# Altium integrated library Infineon_Microcontroller.IntLib: 721 symbols (part 52 of 66)
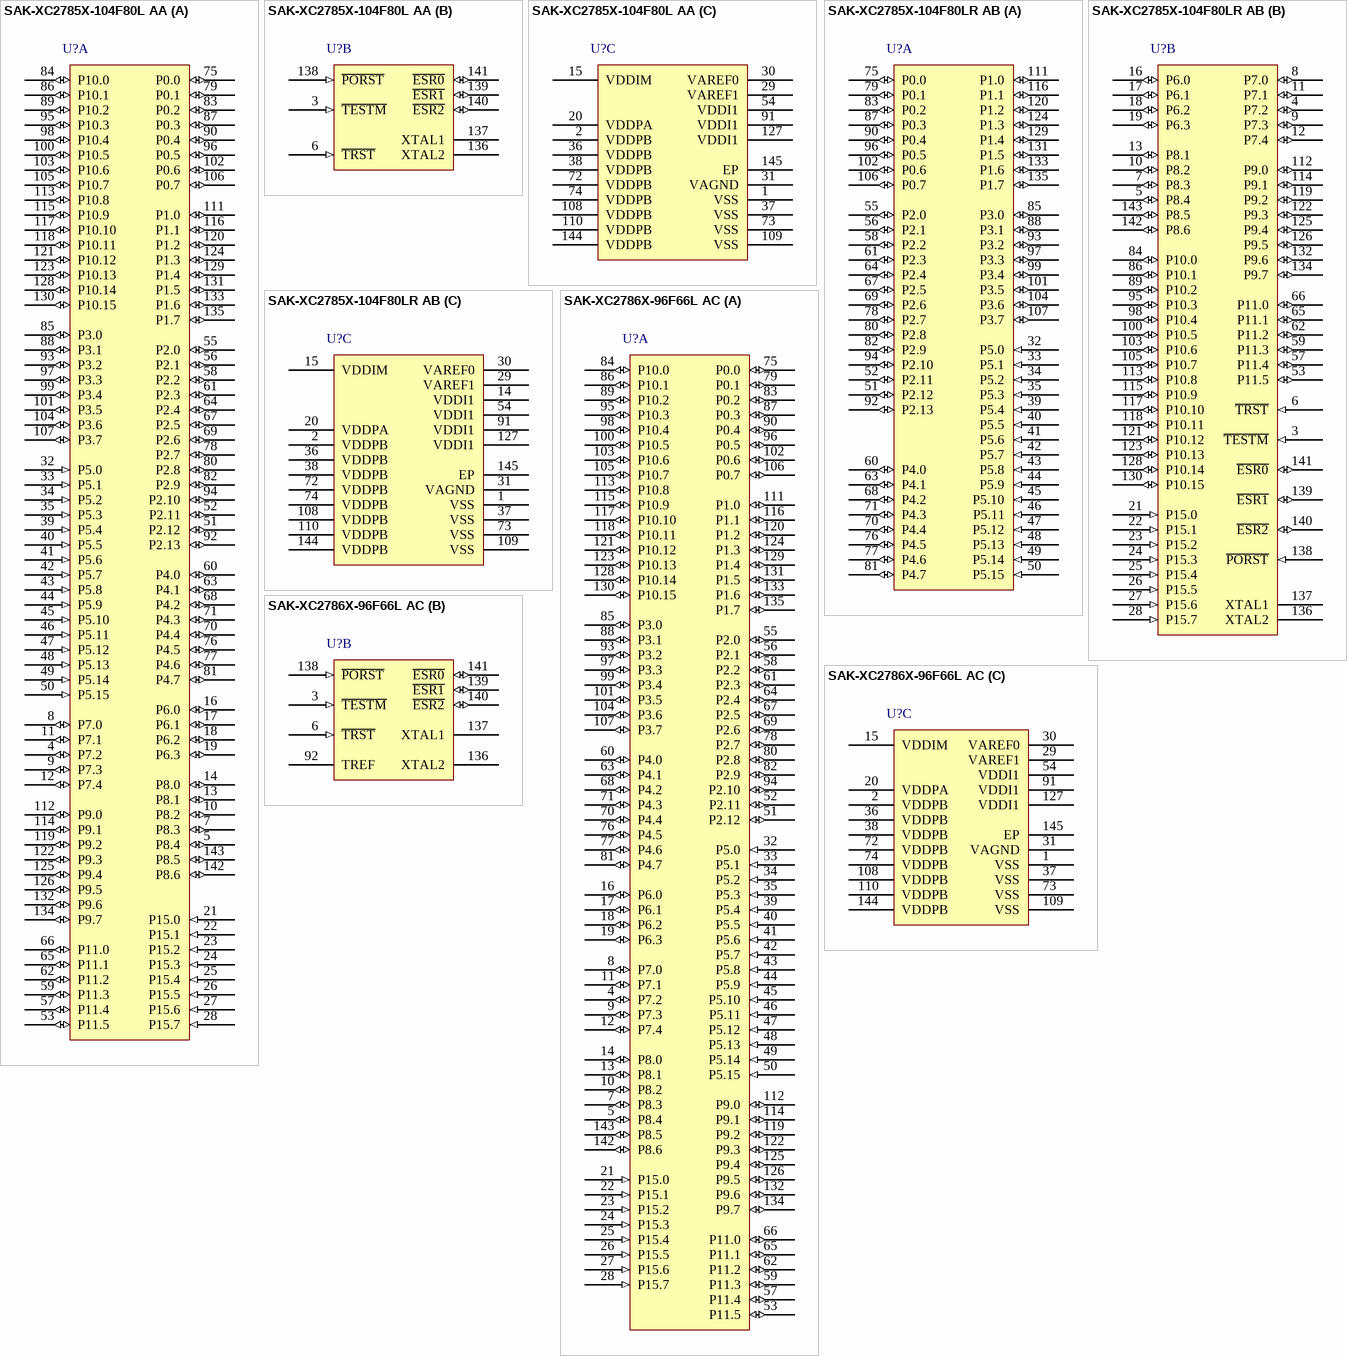
[diagram p169: symbols SAK-XC2785X-104F80L AA to SAK-XC2786X-96F66L AC]

## SAK-XC2786X-96F66L AC
designator U?
66 MHz XC2700 MCU with 768 KByte Program Memory, 51 KByte SRAM, 3 V, 5.5 V, -40 to 125 degC, PG-LQFP-144, Reel, Green; Manufacturer: Infineon; PartNumber: SAK-XC2786X-96F66L AC; A / D input lines (incl. FADC): 24; CAN Nodes: 2; Digital I/O Lines: 116; DMA Channels: 8; DSP functionality (e.g MDU/MAC): TRUE; Instruction width [bits]: 16/32; LIN BSL loader (for fast Flash programming): FALSE; Max Clock Frequency: 66 MHz; Power Modes: 3; Timed I/O Pins (PWM-Ch,CAPCOM): 44; Timer / Counter: 17; Type of Memory: Flash; Type of Serial I/O Interfaces: USIC(1); DatasheetVersion: Rev. 2.1; PackageVersion: V2.1, 08/2008; PackageReference: PG-LQFP-144-4; PackageDescription: 144-Pin Plastic Green Thin Quad Flat Package, Body 20 x 20 mm, Pitch 0.5 mm; Supplier 1: Mouser; Supplier Part Number 1: 726-SAKXC2786X96F66L; Supplier 2: Digi-Key; Supplier Part Number 2: SAK-XC2786X-96F66LACINTR-ND; Supplier 3: Digi-Key; Supplier Part Number 3: SAK-XC2786X-96F66LACINCT-ND; Supplier 4: Digi-Key; Supplier Part Number 4: SAK-XC2786X-96F66LACINDKR-ND; E2PROM Emulation (Data-Flash): TRUE; External Bus interface: TRUE; Green: TRUE; Halogen-free: TRUE; I/O Operation Voltages: 3 V, 5.5 V; Number of ADC Modules: 2; On-chip clock generation: TRUE; On-chip Voltage Regulator: TRUE; Oscillator Watchdog: TRUE; Packing: Reel; Program Memory: 768 KByte; Real Time Clock (RTC): TRUE; Serial I/O Interfaces: 3; SRAM (incl. Cache): 51 KByte; Watchdog Timer: TRUE; Mounting Technology: Surface Mount; ComponentLink1Description: Manufacturer URL; ComponentLink1URL: http://www.infineon.com/; ComponentLink2Description: Datasheet; ComponentLink2URL: http://www.infineon.com/dgdl/xc2786x_ds_v2.1_2008_08.pdf?folderId=db3a3043156fd5730115944bf6c00727&fileId=db3a3043156fd5730115acf1e7cf0aa6; ComponentLink3Description: Package Specification; ComponentLink3URL: http://www.infineon.com/dgdl/xc228x_ds_v2.1_2008_08.pdf?folderId=db3a304412b407950112b408e8c90004&fileId=db3a304412b407950112b40937b40162&sId=db3a30433d956bc3013d9bbb42cd14dc
footprint INF-PG-LQFP-144-4_N (QFP, 144-Leads, Body 20x20mm, Pitch 0.5mm, Thermal Pad 6.5x6.5mm, IPC Medium Density)
footprint INF-PG-LQFP-144-4_L (QFP, 144-Leads, Body 20x20mm, Pitch 0.5mm, Thermal Pad 6.5x6.5mm, IPC High Density)
footprint INF-PG-LQFP-144-4_M (QFP, 144-Leads, Body 20x20mm, Pitch 0.5mm, Thermal Pad 6.5x6.5mm, IPC Low Density)
part A pins: 4 P7.2 (io), 5 P8.4 (io), 7 P8.3 (io), 8 P7.0 (io), 9 P7.3 (io), 10 P8.2 (io), 11 P7.1 (io), 12 P7.4 (io), 13 P8.1 (io), 14 P8.0 (io), 16 P6.0 (io), 17 P6.1 (io), 18 P6.2 (io), 19 P6.3 (io), 21 P15.0 (in), 22 P15.1 (in), 23 P15.2 (in), 24 P15.3 (in), 25 P15.4 (in), 26 P15.5 (in), 27 P15.6 (in), 28 P15.7 (in), 32 P5.0 (in), 33 P5.1 (in), 34 P5.2 (in), 35 P5.3 (in), 39 P5.4 (in), 40 P5.5 (in), 41 P5.6 (in), 42 P5.7 (in), 43 P5.8 (in), 44 P5.9 (in), 45 P5.10 (in), 46 P5.11 (in), 47 P5.12 (in), 48 P5.13 (in), 49 P5.14 (in), 50 P5.15 (in), 51 P2.12 (io), 52 P2.11 (io), 53 P11.5 (io) "Bit 5 of Port 11, General Purpose Input/Output", 55 P2.0 (io), 56 P2.1 (io), 57 P11.4 (io) "Bit 4 of Port 11, General Purpose Input/Output", 58 P2.2 (io), 59 P11.3 (io) "Bit 3 of Port 11, General Purpose Input/Output", 60 P4.0 (io), 61 P2.3 (io), 62 P11.2 (io), 63 P4.1 (io), 64 P2.4 (io), 65 P11.1 (io), 66 P11.0 (io), 67 P2.5 (io), 68 P4.2 (io), 69 P2.6 (io), 70 P4.4 (io), 71 P4.3 (io), 75 P0.0 (io), 76 P4.5 (io), 77 P4.6 (io), 78 P2.7 (io), 79 P0.1 (io), 80 P2.8 (io), 81 P4.7 (io), 82 P2.9 (io), 83 P0.2 (io), 84 P10.0 (io), 85 P3.0 (io), 86 P10.1 (io), 87 P0.3 (io), 88 P3.1 (io), 89 P10.2 (io), 90 P0.4 (io), 93 P3.2 (io), 94 P2.10 (io), 95 P10.3 (io), 96 P0.5 (io), 97 P3.3 (io), 98 P10.4 (io), 99 P3.4 (io), 100 P10.5 (io), 101 P3.5 (io), 102 P0.6 (io), 103 P10.6 (io), 104 P3.6 (io), 105 P10.7 (io), 106 P0.7 (io), 107 P3.7 (io), 111 P1.0 (io), 112 P9.0 (io), 113 P10.8 (io), 114 P9.1 (io), 115 P10.9 (io), 116 P1.1 (io), 117 P10.10 (io), 118 P10.11 (io), 119 P9.2 (io), 120 P1.2 (io), 121 P10.12 (io), 122 P9.3 (io), 123 P10.13 (io), 124 P1.3 (io), 125 P9.4 (io), 126 P9.5 (io), 128 P10.14 (io), 129 P1.4 (io), 130 P10.15 (io), 131 P1.5 (io), 132 P9.6 (io), 133 P1.6 (io), 134 P9.7 (io), 135 P1.7 (io), 142 P8.6 (io), 143 P8.5 (io)
part B pins: 3 ~{TESTM} (in) "Testmode Enable", 6 ~{TRST} (in) "Test-System Reset Input", 92 TREF "Control Pin for Core Voltage Generation", 136 XTAL2 "Crystal Oscillator Amplifier Output", 137 XTAL1 "Crystal Oscillator Amplifier Input", 138 ~{PORST} (in) "Power On Reset Input", 139 ~{ESR1} (io), 140 ~{ESR2} (io), 141 ~{ESR0} (io)
part C pins: 1 VSS (power) "Digital Ground", 2 VDDPB (power) "Digital Pad Supply Voltage for Domain B", 15 VDDIM (power) "Digital Core Supply Voltage for Domain M", 20 VDDPA (power) "Digital Pad Supply Voltage for Domain A", 29 VAREF1 (power) "Reference Voltage for A/D Converter ADC1", 30 VAREF0 (power) "Reference Voltage for A/D Converter ADC0", 31 VAGND (power) "Reference Ground for A/D Converters ADC0/1", 36 VDDPB (power) "Digital Pad Supply Voltage for Domain B", 37 VSS (power) "Digital Ground", 38 VDDPB (power) "Digital Pad Supply Voltage for Domain B", 54 VDDI1 (power) "Digital Core Supply Voltage for Domain 1", 72 VDDPB (power) "Digital Pad Supply Voltage for Domain B", 73 VSS (power) "Digital Ground", 74 VDDPB (power) "Digital Pad Supply Voltage for Domain B", 91 VDDI1 (power) "Digital Core Supply Voltage for Domain 1", 108 VDDPB (power) "Digital Pad Supply Voltage for Domain B", 109 VSS (power) "Digital Ground", 110 VDDPB (power) "Digital Pad Supply Voltage for Domain B", 127 VDDI1 (power) "Digital Core Supply Voltage for Domain 1", 144 VDDPB (power) "Digital Pad Supply Voltage for Domain B", 145 EP (power)

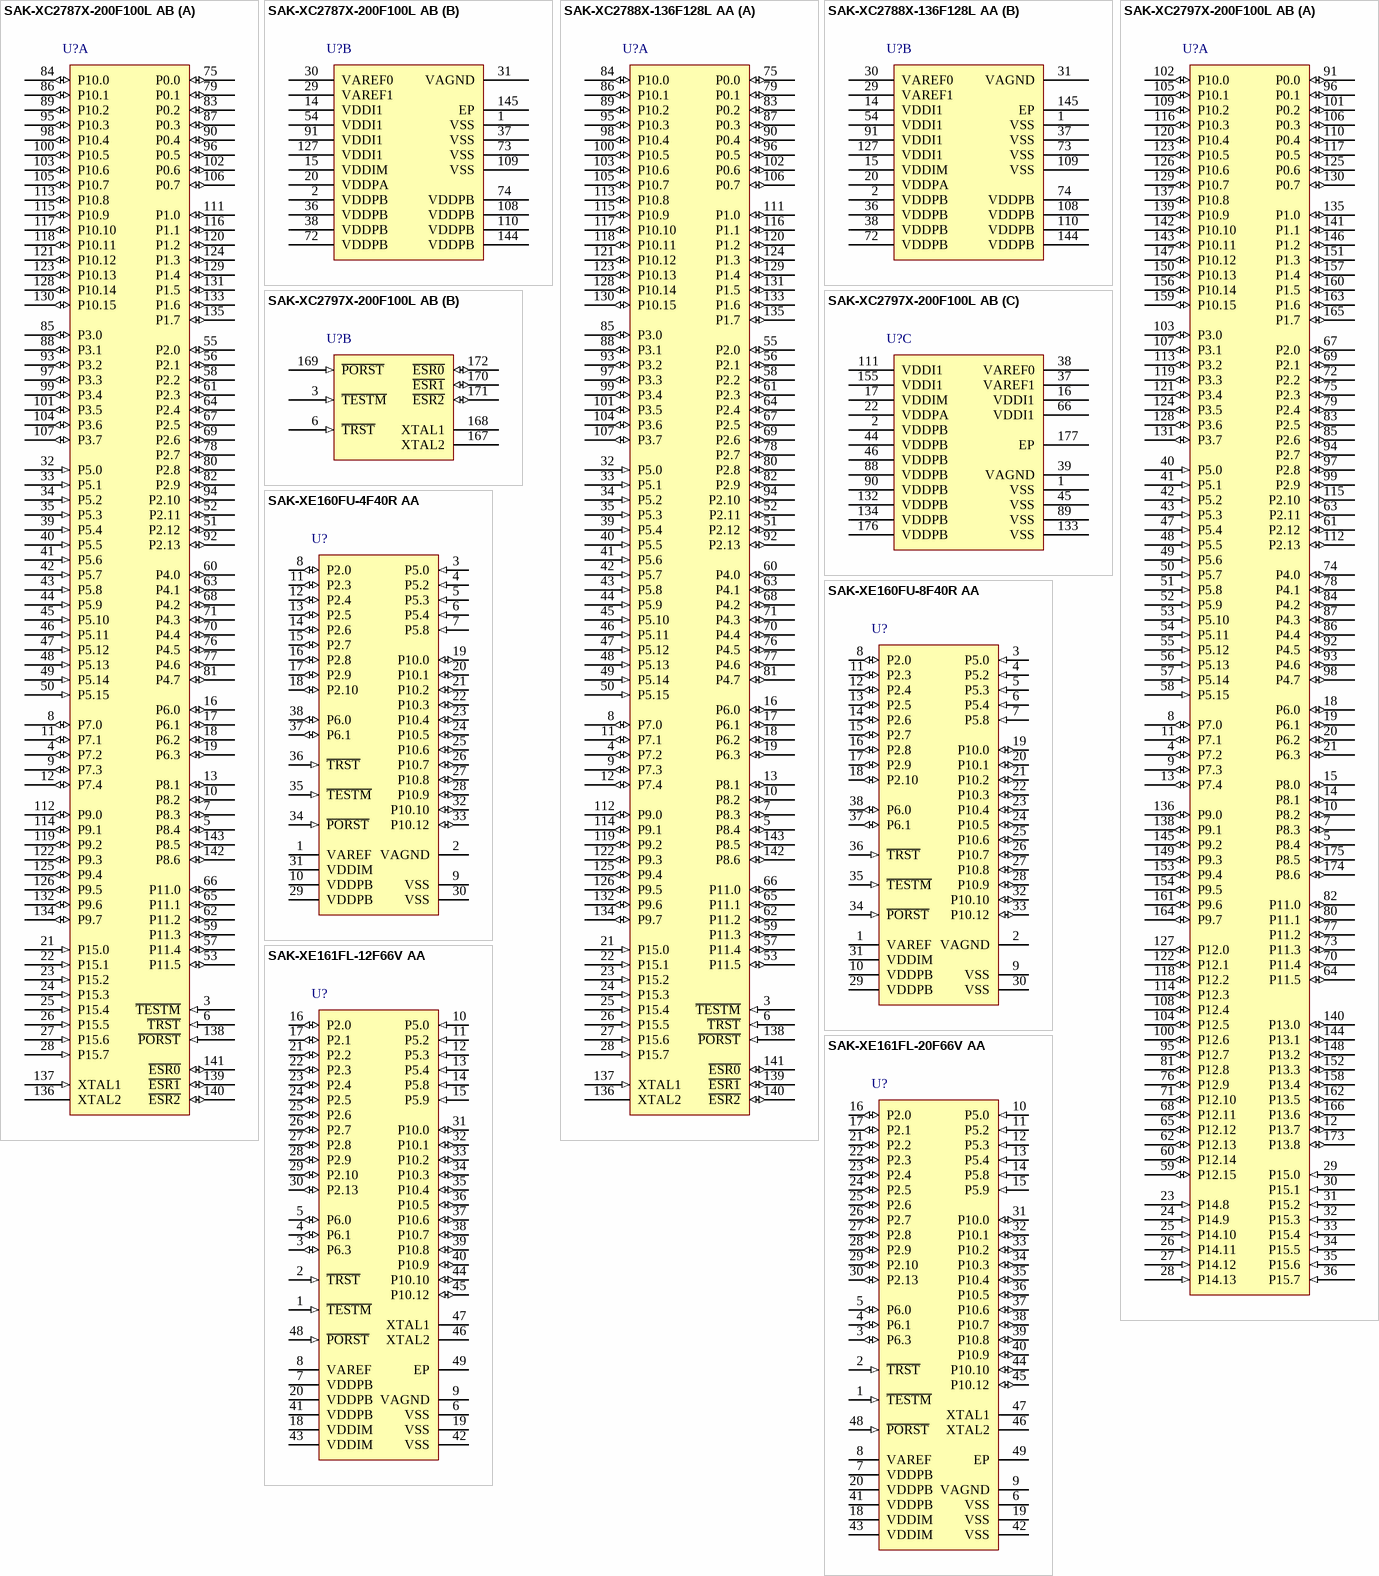
[diagram p94: symbols SAK-XC2787X-200F100L AB to SAK-XE161FL-20F66V AA]

## SAK-XC2787X-200F100L AB
designator U?
100 MHz XC2700 MCU with 1600 KByte Program Memory, 138 KByte SRAM, 3 V, 5.5 V, -40 to 125 degC, PG-LQFP-144, Reel, Green; Manufacturer: Infineon; PartNumber: SAK-XC2787X-200F100L AB; A / D input lines (incl. FADC): 24; CAN Nodes: 2; Digital I/O Lines: 118; DMA Channels: 16; DSP functionality (e.g MDU/MAC): TRUE; Instruction width [bits]: 16/32; LIN BSL loader (for fast Flash programming): FALSE; Max Clock Frequency: 100 MHz; Program Memory: 1,600 KByte; Serial I/O Interfaces: 10; Timed I/O Pins (PWM-Ch,CAPCOM): up to 44; Timer / Counter: 17; Type of Memory: Flash; Type of Serial I/O Interfaces: SPI(10), LIN, UART, I2C, I2S; DatasheetVersion: Rev. 1.3; PackageVersion: V2.1, 07/2011; PackageReference: PG-LQFP-144-13; PackageDescription: 144-Pin Plastic Green Thin Quad Flat Package, Body 20 x 20 mm, Pitch 0.5 mm; Supplier 1: Mouser; Supplier Part Number 1: 726-KXC2787X200F100B; Supplier 2: Digi-Key; Supplier Part Number 2: SAK-XC2787X-200F100L AB-ND; E2PROM Emulation (Data-Flash): TRUE; External Bus interface: TRUE; Green: TRUE; Halogen-free: TRUE; I/O Operation Voltages: 3 V, 5.5 V; Number of ADC Modules: 2; On-chip clock generation: TRUE; On-chip Voltage Regulator: TRUE; Oscillator Watchdog: TRUE; Packing: Reel; Power Modes: 2; Real Time Clock (RTC): TRUE; SRAM (incl. Cache): 138 KByte; Watchdog Timer: TRUE; Mounting Technology: Surface Mount; Code_JEDEC: J-STD-020C; ComponentLink1Description: Manufacturer URL; ComponentLink1URL: http://www.infineon.com/; ComponentLink2Description: Datasheet; ComponentLink2URL: http://www.infineon.com/dgdl/xc2787x_ds_v1.3_2011_07.pdf?folderId=db3a3043156fd5730115944bf6c00727&fileId=db3a304328c6bd5c012912087ab5098e; ComponentLink3Description: Package Specification; ComponentLink3URL: http://www.infineon.com/dgdl/xc238xa_ds_v2+1_2011_07.pdf?folderId=db3a304412b407950112b409d4b00386&fileId=db3a3043353fdc16013557e024517b1e&sId=db3a30443d98b7f0013d9b8ad537024b
footprint INF-PG-LQFP-144-13_N (QFP, 144-Leads, Body 20x20mm, Pitch 0.5mm, Thermal Pad 6.5x6.5mm, IPC Medium Density)
footprint INF-PG-LQFP-144-13_L (QFP, 144-Leads, Body 20x20mm, Pitch 0.5mm, Thermal Pad 6.5x6.5mm, IPC High Density)
footprint INF-PG-LQFP-144-13_M (QFP, 144-Leads, Body 20x20mm, Pitch 0.5mm, Thermal Pad 6.5x6.5mm, IPC Low Density)
part A pins: 3 ~{TESTM} (in) "Testmode Enable", 4 P7.2 (io), 5 P8.4 (io), 6 ~{TRST} (in) "Test-System Reset Input", 7 P8.3 (io), 8 P7.0 (io), 9 P7.3 (io), 10 P8.2 (io), 11 P7.1 (io), 12 P7.4 (io), 13 P8.1 (io), 16 P6.0 (io), 17 P6.1 (io), 18 P6.2 (io), 19 P6.3 (io), 21 P15.0 (in), 22 P15.1 (in), 23 P15.2 (in), 24 P15.3 (in), 25 P15.4 (in), 26 P15.5 (in), 27 P15.6 (in), 28 P15.7 (in), 32 P5.0 (in), 33 P5.1 (in), 34 P5.2 (in), 35 P5.3 (in), 39 P5.4 (in), 40 P5.5 (in), 41 P5.6 (in), 42 P5.7 (in), 43 P5.8 (in), 44 P5.9 (in), 45 P5.10 (in), 46 P5.11 (in), 47 P5.12 (in), 48 P5.13 (in), 49 P5.14 (in), 50 P5.15 (in), 51 P2.12 (io), 52 P2.11 (io), 53 P11.5 (io), 55 P2.0 (io), 56 P2.1 (io), 57 P11.4 (io), 58 P2.2 (io), 59 P11.3 (io), 60 P4.0 (io), 61 P2.3 (io), 62 P11.2 (io), 63 P4.1 (io), 64 P2.4 (io), 65 P11.1 (io), 66 P11.0 (io), 67 P2.5 (io), 68 P4.2 (io), 69 P2.6 (io), 70 P4.4 (io), 71 P4.3 (io), 75 P0.0 (io), 76 P4.5 (io), 77 P4.6 (io), 78 P2.7 (io), 79 P0.1 (io), 80 P2.8 (io), 81 P4.7 (io), 82 P2.9 (io), 83 P0.2 (io), 84 P10.0 (io), 85 P3.0 (io), 86 P10.1 (io), 87 P0.3 (io), 88 P3.1 (io), 89 P10.2 (io), 90 P0.4 (io), 92 P2.13 (io), 93 P3.2 (io), 94 P2.10 (io), 95 P10.3 (io), 96 P0.5 (io), 97 P3.3 (io), 98 P10.4 (io), 99 P3.4 (io), 100 P10.5 (io), 101 P3.5 (io), 102 P0.6 (io), 103 P10.6 (io), 104 P3.6 (io), 105 P10.7 (io), 106 P0.7 (io), 107 P3.7 (io), 111 P1.0 (io), 112 P9.0 (io), 113 P10.8 (io), 114 P9.1 (io), 115 P10.9 (io), 116 P1.1 (io), 117 P10.10 (io), 118 P10.11 (io), 119 P9.2 (io), 120 P1.2 (io), 121 P10.12 (io), 122 P9.3 (io), 123 P10.13 (io), 124 P1.3 (io), 125 P9.4 (io), 126 P9.5 (io), 128 P10.14 (io), 129 P1.4 (io), 130 P10.15 (io), 131 P1.5 (io), 132 P9.6 (io), 133 P1.6 (io), 134 P9.7 (io), 135 P1.7 (io), 136 XTAL2 "Crystal Oscillator Amplifier Output", 137 XTAL1 (in), 138 ~{PORST} (in) "Power On Reset Input", 139 ~{ESR1} (io), 140 ~{ESR2} (io), 141 ~{ESR0} (io), 142 P8.6 (io), 143 P8.5 (io)
part B pins: 1 VSS (power) "Digital Ground", 2 VDDPB (power) "Digital Pad Supply Voltage for Domain B", 14 VDDI1 (power) "Digital Core Supply Voltage for Domain 1", 15 VDDIM (power) "Digital Core Supply Voltage for Domain M", 20 VDDPA (power) "Digital Pad Supply Voltage for Domain A", 29 VAREF1 (power) "Reference Voltage for A/D Converter ADC1", 30 VAREF0 (power) "Reference Voltage for A/D Converter ADC0", 31 VAGND (power) "Reference Ground for A/D Converters ADC0/1", 36 VDDPB (power) "Digital Pad Supply Voltage for Domain B", 37 VSS (power) "Digital Ground", 38 VDDPB (power) "Digital Pad Supply Voltage for Domain B", 54 VDDI1 (power) "Digital Core Supply Voltage for Domain 1", 72 VDDPB (power) "Digital Pad Supply Voltage for Domain B", 73 VSS (power) "Digital Ground", 74 VDDPB (power) "Digital Pad Supply Voltage for Domain B", 91 VDDI1 (power) "Digital Core Supply Voltage for Domain 1", 108 VDDPB (power) "Digital Pad Supply Voltage for Domain B", 109 VSS (power) "Digital Ground", 110 VDDPB (power) "Digital Pad Supply Voltage for Domain B", 127 VDDI1 (power) "Digital Core Supply Voltage for Domain 1", 144 VDDPB (power) "Digital Pad Supply Voltage for Domain B", 145 EP (power)

## SAK-XC2788X-136F128L AA
designator U?
128 MHz XC2700 MCU with 1088 KByte Program Memory, 90 KByte SRAM, 3 V, 5.5 V, -40 to 125 degC, PG-LQFP-144, Reel, Green; Manufacturer: Infineon; PartNumber: SAK-XC2788X-136F128L AA; A / D input lines (incl. FADC): 24; CAN Nodes: 2; Digital I/O Lines: 118; DMA Channels: 16; DSP functionality (e.g MDU/MAC): TRUE; Instruction width [bits]: 16/32; LIN BSL loader (for fast Flash programming): FALSE; Max Clock Frequency: 128 MHz; Power Modes: 3; Program Memory: 1,088 KByte; Serial I/O Interfaces: 10; Timed I/O Pins (PWM-Ch,CAPCOM): up to 44; Timer / Counter: 17; Type of Memory: Flash; Type of Serial I/O Interfaces: SPI(10), LIN, UART, I2C, I2S; DatasheetVersion: Rev. 1.2; PackageVersion: V1.2, 06/2012; PackageReference: PG-LQFP-144-16; PackageDescription: 144-Pin Plastic Green Thin Quad Flat Package, Body 20 x 20 mm, Pitch 0.5 mm; Supplier 1: Mouser; Supplier Part Number 1: 726-SAKXC2788X128LAA; E2PROM Emulation (Data-Flash): TRUE; External Bus interface: TRUE; Green: TRUE; Halogen-free: TRUE; I/O Operation Voltages: 3 V, 5.5 V; Number of ADC Modules: 2; On-chip clock generation: TRUE; On-chip Voltage Regulator: TRUE; Oscillator Watchdog: TRUE; Packing: Reel; Real Time Clock (RTC): TRUE; SRAM (incl. Cache): 90 KByte; Watchdog Timer: TRUE; Mounting Technology: Surface Mount; Code_JEDEC: J-STD-020C; ComponentLink1Description: Manufacturer URL; ComponentLink1URL: http://www.infineon.com/; ComponentLink2Description: Datasheet; ComponentLink2URL: http://www.infineon.com/dgdl/xc2788x_ds_V1.2_2012_06.pdf?folderId=db3a3043156fd5730115944bf6c00727&fileId=db3a30432e1525b3012e24d6e2b0235f; ComponentLink3Description: Package Specification; ComponentLink3URL: http://www.infineon.com/dgdl/xc228xi_ds_V1.2_2012_06.pdf?folderId=db3a3043132679fb01133eb909a307c3&fileId=db3a304333227b5e0133404db62c1cd4&sId=db3a30433d956bc3013d9f37c38628d5
footprint INF-PG-LQFP-144-16_N (QFP, 144-Leads, Body 20x20mm, Pitch 0.5mm, Thermal Pad 7.5x7.5mm, IPC Medium Density)
footprint INF-PG-LQFP-144-16_L (QFP, 144-Leads, Body 20x20mm, Pitch 0.5mm, Thermal Pad 7.5x7.5mm, IPC High Density)
footprint INF-PG-LQFP-144-16_M (QFP, 144-Leads, Body 20x20mm, Pitch 0.5mm, Thermal Pad 7.5x7.5mm, IPC Low Density)
part A pins: 3 ~{TESTM} (in) "Testmode Enable", 4 P7.2 (io), 5 P8.4 (io), 6 ~{TRST} (in) "Test-System Reset Input", 7 P8.3 (io), 8 P7.0 (io), 9 P7.3 (io), 10 P8.2 (io), 11 P7.1 (io), 12 P7.4 (io), 13 P8.1 (io), 16 P6.0 (io), 17 P6.1 (io), 18 P6.2 (io), 19 P6.3 (io), 21 P15.0 (in), 22 P15.1 (in), 23 P15.2 (in), 24 P15.3 (in), 25 P15.4 (in), 26 P15.5 (in), 27 P15.6 (in), 28 P15.7 (in), 32 P5.0 (in), 33 P5.1 (in), 34 P5.2 (in), 35 P5.3 (in), 39 P5.4 (in), 40 P5.5 (in), 41 P5.6 (in), 42 P5.7 (in), 43 P5.8 (in), 44 P5.9 (in), 45 P5.10 (in), 46 P5.11 (in), 47 P5.12 (in), 48 P5.13 (in), 49 P5.14 (in), 50 P5.15 (in), 51 P2.12 (io), 52 P2.11 (io), 53 P11.5 (io), 55 P2.0 (io), 56 P2.1 (io), 57 P11.4 (io), 58 P2.2 (io), 59 P11.3 (io), 60 P4.0 (io), 61 P2.3 (io), 62 P11.2 (io), 63 P4.1 (io), 64 P2.4 (io), 65 P11.1 (io), 66 P11.0 (io), 67 P2.5 (io), 68 P4.2 (io), 69 P2.6 (io), 70 P4.4 (io), 71 P4.3 (io), 75 P0.0 (io), 76 P4.5 (io), 77 P4.6 (io), 78 P2.7 (io), 79 P0.1 (io), 80 P2.8 (io), 81 P4.7 (io), 82 P2.9 (io), 83 P0.2 (io), 84 P10.0 (io), 85 P3.0 (io), 86 P10.1 (io), 87 P0.3 (io), 88 P3.1 (io), 89 P10.2 (io), 90 P0.4 (io), 92 P2.13 (io), 93 P3.2 (io), 94 P2.10 (io), 95 P10.3 (io), 96 P0.5 (io), 97 P3.3 (io), 98 P10.4 (io), 99 P3.4 (io), 100 P10.5 (io), 101 P3.5 (io), 102 P0.6 (io), 103 P10.6 (io), 104 P3.6 (io), 105 P10.7 (io), 106 P0.7 (io), 107 P3.7 (io), 111 P1.0 (io), 112 P9.0 (io), 113 P10.8 (io), 114 P9.1 (io), 115 P10.9 (io), 116 P1.1 (io), 117 P10.10 (io), 118 P10.11 (io), 119 P9.2 (io), 120 P1.2 (io), 121 P10.12 (io), 122 P9.3 (io), 123 P10.13 (io), 124 P1.3 (io), 125 P9.4 (io), 126 P9.5 (io), 128 P10.14 (io), 129 P1.4 (io), 130 P10.15 (io), 131 P1.5 (io), 132 P9.6 (io), 133 P1.6 (io), 134 P9.7 (io), 135 P1.7 (io), 136 XTAL2 "Crystal Oscillator Amplifier Output", 137 XTAL1 (in), 138 ~{PORST} (in) "Power On Reset Input", 139 ~{ESR1} (io), 140 ~{ESR2} (io), 141 ~{ESR0} (io), 142 P8.6 (io), 143 P8.5 (io)
part B pins: 1 VSS (power) "Digital Ground", 2 VDDPB (power) "Digital Pad Supply Voltage for Domain B", 14 VDDI1 (power) "Digital Core Supply Voltage for Domain 1", 15 VDDIM (power) "Digital Core Supply Voltage for Domain M", 20 VDDPA (power) "Digital Pad Supply Voltage for Domain A", 29 VAREF1 (power) "Reference Voltage for A/D Converter ADC1", 30 VAREF0 (power) "Reference Voltage for A/D Converter ADC0", 31 VAGND (power) "Reference Ground for A/D Converters ADC0/1", 36 VDDPB (power) "Digital Pad Supply Voltage for Domain B", 37 VSS (power) "Digital Ground", 38 VDDPB (power) "Digital Pad Supply Voltage for Domain B", 54 VDDI1 (power) "Digital Core Supply Voltage for Domain 1", 72 VDDPB (power) "Digital Pad Supply Voltage for Domain B", 73 VSS (power) "Digital Ground", 74 VDDPB (power) "Digital Pad Supply Voltage for Domain B", 91 VDDI1 (power) "Digital Core Supply Voltage for Domain 1", 108 VDDPB (power) "Digital Pad Supply Voltage for Domain B", 109 VSS (power) "Digital Ground", 110 VDDPB (power) "Digital Pad Supply Voltage for Domain B", 127 VDDI1 (power) "Digital Core Supply Voltage for Domain 1", 144 VDDPB (power) "Digital Pad Supply Voltage for Domain B", 145 EP (power)

## SAK-XC2797X-200F100L AB
designator U?
100 MHz XC2700 MCU with 1600 KByte Program Memory, 138 KByte SRAM, 3 V, 5.5 V, -40 to 125 degC, PG-LQFP-176, Reel, Green; Manufacturer: Infineon; PartNumber: SAK-XC2797X-200F100L AB; A / D input lines (incl. FADC): 30; CAN Nodes: 2; Digital I/O Lines: 150; DMA Channels: 16; DSP functionality (e.g MDU/MAC): TRUE; Instruction width [bits]: 16/32; LIN BSL loader (for fast Flash programming): FALSE; Max Clock Frequency: 100 MHz; Program Memory: 1,600 KByte; Serial I/O Interfaces: 10; Timed I/O Pins (PWM-Ch,CAPCOM): up to 44; Timer / Counter: 17; Type of Memory: Flash; Type of Serial I/O Interfaces: SPI(10), LIN, UART, I2C, I2S; DatasheetVersion: Rev. 1.3; PackageVersion: V1.3, 07/2011; PackageReference: PG-LQFP-176-12; PackageDescription: 176-Pin Plastic Green Thin Quad Flat Package, Body 24 x 24 mm, Pitch 0.5 mm; Supplier 1: Mouser; Supplier Part Number 1: 726-KXC2797X200F100B; Supplier 2: Digi-Key; Supplier Part Number 2: SAK-XC2797X-200F100L AB-ND; E2PROM Emulation (Data-Flash): TRUE; External Bus interface: TRUE; Green: TRUE; Halogen-free: TRUE; I/O Operation Voltages: 3 V, 5.5 V; Number of ADC Modules: 2; On-chip clock generation: TRUE; On-chip Voltage Regulator: TRUE; Oscillator Watchdog: TRUE; Packing: Reel; Power Modes: 2; Real Time Clock (RTC): TRUE; SRAM (incl. Cache): 138 KByte; Watchdog Timer: TRUE; Mounting Technology: Surface Mount; Code_JEDEC: J-STD-020C; ComponentLink1Description: Manufacturer URL; ComponentLink1URL: http://www.infineon.com/; ComponentLink2Description: Datasheet; ComponentLink2URL: http://www.infineon.com/dgdl/xc2797x_ds_v1.3_2011_07.pdf?folderId=db3a3043156fd5730115944bf6c00727&fileId=db3a304328c6bd5c0129120a874a0994; ComponentLink3Description: Package Specification; ComponentLink3URL: http://www.infineon.com/dgdl/xc2797x_ds_v1.3_2011_07.pdf?folderId=db3a3043156fd5730115944bf6c00727&fileId=db3a304328c6bd5c0129120a874a0994
footprint INF-PG-LQFP-176-12_N (QFP, 176-Leads, Body 24x24mm, Pitch 0.5mm, Thermal Pad 7.9x7.9mm, IPC Medium Density)
footprint INF-PG-LQFP-176-12_L (QFP, 176-Leads, Body 24x24mm, Pitch 0.5mm, Thermal Pad 7.9x7.9mm, IPC High Density)
footprint INF-PG-LQFP-176-12_M (QFP, 176-Leads, Body 24x24mm, Pitch 0.5mm, Thermal Pad 7.9x7.9mm, IPC Low Density)
part A pins: 4 P7.2 (io), 5 P8.4 (io), 7 P8.3 (io), 8 P7.0 (io), 9 P7.3 (io), 10 P8.2 (io), 11 P7.1 (io), 12 P13.7 (io), 13 P7.4 (io), 14 P8.1 (io), 15 P8.0 (io), 18 P6.0 (io), 19 P6.1 (io), 20 P6.2 (io), 21 P6.3 (io), 23 P14.8 (in), 24 P14.9 (in), 25 P14.10 (in), 26 P14.11 (in), 27 P14.12 (in), 28 P14.13 (in), 29 P15.0 (in), 30 P15.1 (in), 31 P15.2 (in), 32 P15.3 (in), 33 P15.4 (in), 34 P15.5 (in), 35 P15.6 (in), 36 P15.7 (in), 40 P5.0 (in), 41 P5.1 (in), 42 P5.2 (in), 43 P5.3 (in), 47 P5.4 (in), 48 P5.5 (in), 49 P5.6 (in), 50 P5.7 (in), 51 P5.8 (in), 52 P5.9 (in), 53 P5.10 (in), 54 P5.11 (in), 55 P5.12 (in), 56 P5.13 (in), 57 P5.14 (in), 58 P5.15 (in), 59 P12.15 (io), 60 P12.14 (io), 61 P2.12 (io), 62 P12.13 (io), 63 P2.11 (io), 64 P11.5 (io), 65 P12.12 (io), 67 P2.0 (io), 68 P12.11 (io), 69 P2.1 (io), 70 P11.4 (io), 71 P12.10 (io), 72 P2.2 (io), 73 P11.3 (io), 74 P4.0 (io), 75 P2.3 (io), 76 P12.9 (io), 77 P11.2 (io), 78 P4.1 (io), 79 P2.4 (io), 80 P11.1 (io), 81 P12.8 (io), 82 P11.0 (io), 83 P2.5 (io), 84 P4.2 (io), 85 P2.6 (io), 86 P4.4 (io), 87 P4.3 (io), 91 P0.0 (io), 92 P4.5 (io), 93 P4.6 (io), 94 P2.7 (io), 95 P12.7 (io), 96 P0.1 (io), 97 P2.8 (io), 98 P4.7 (io), 99 P2.9 (io), 100 P12.6 (io), 101 P0.2 (io), 102 P10.0 (io), 103 P3.0 (io), 104 P12.5 (io), 105 P10.1 (io), 106 P0.3 (io), 107 P3.1 (io), 108 P12.4 (io), 109 P10.2 (io), 110 P0.4 (io), 112 P2.13 (io), 113 P3.2 (io), 114 P12.3 (io), 115 P2.10 (io), 116 P10.3 (io), 117 P0.5 (io), 118 P12.2 (io), 119 P3.3 (io), 120 P10.4 (io), 121 P3.4 (io), 122 P12.1 (io), 123 P10.5 (io), 124 P3.5 (io), 125 P0.6 (io), 126 P10.6 (io), 127 P12.0 (io), 128 P3.6 (io), 129 P10.7 (io), 130 P0.7 (io), 131 P3.7 (io), 135 P1.0 (io), 136 P9.0 (io), 137 P10.8 (io), 138 P9.1 (io), 139 P10.9 (io), 140 P13.0 (io), 141 P1.1 (io), 142 P10.10 (io), 143 P10.11 (io), 144 P13.1 (io), 145 P9.2 (io), 146 P1.2 (io), 147 P10.12 (io), 148 P13.2 (io), 149 P9.3 (io), 150 P10.13 (io), 151 P1.3 (io), 152 P13.3 (io), 153 P9.4 (io), 154 P9.5 (io), 156 P10.14 (io), 157 P1.4 (io), 158 P13.4 (io), 159 P10.15 (io), 160 P1.5 (io), 161 P9.6 (io), 162 P13.5 (io), 163 P1.6 (io), 164 P9.7 (io), 165 P1.7 (io), 166 P13.6 (io), 173 P13.8 (io), 174 P8.6 (io), 175 P8.5 (io)
part B pins: 3 ~{TESTM} (in) "Testmode Enable", 6 ~{TRST} (in) "Test-System Reset Input", 167 XTAL2 "Crystal Oscillator Amplifier Output", 168 XTAL1, 169 ~{PORST} (in), 170 ~{ESR1} (io), 171 ~{ESR2} (io), 172 ~{ESR0} (io)
part C pins: 1 VSS (power) "Digital Ground", 2 VDDPB (power) "Digital Pad Supply Voltage for Domain B", 16 VDDI1 (power) "Digital Core Supply Voltage for Domain 1", 17 VDDIM (power) "Digital Core Supply Voltage for Domain M", 22 VDDPA (power) "Digital Pad Supply Voltage for Domain A", 37 VAREF1 (power) "Reference Voltage for A/D Converter ADC1", 38 VAREF0 (power) "Reference Voltage for A/D Converter ADC0", 39 VAGND (power) "Reference Ground for A/D Converters ADC0/1", 44 VDDPB (power) "Digital Pad Supply Voltage for Domain B", 45 VSS (power) "Digital Ground", 46 VDDPB (power) "Digital Pad Supply Voltage for Domain B", 66 VDDI1 (power) "Digital Core Supply Voltage for Domain 1", 88 VDDPB (power) "Digital Pad Supply Voltage for Domain B", 89 VSS (power) "Digital Ground", 90 VDDPB (power) "Digital Pad Supply Voltage for Domain B", 111 VDDI1 (power) "Digital Core Supply Voltage for Domain 1", 132 VDDPB (power) "Digital Pad Supply Voltage for Domain B", 133 VSS (power) "Digital Ground", 134 VDDPB (power) "Digital Pad Supply Voltage for Domain B", 155 VDDI1 (power) "Digital Core Supply Voltage for Domain 1", 176 VDDPB (power) "Digital Pad Supply Voltage for Domain B", 177 EP (power)

## SAK-XE160FU-4F40R AA
designator U?
40 MHz XE166 MCU with 32 KByte Program Memory, 8 KByte SRAM, 3 V, 5.5 V, -40 to 125 degC, PG-TSSOP-38, Reel, Green; Manufacturer: Infineon; PartNumber: SAK-XE160FU-4F40R AA; A / D input lines (incl. FADC): 8; CAN Nodes: 0; DatasheetVersion: Rev. 1.2; PackageVersion: V1.2, 07/2012; PackageReference: PG-TSSOP-38-8; PackageDescription: 38-Pin Plastic (Green) Thin Shrink Small Outline Package, Body 9.7 x 4.4 mm, Pitch 0.5 mm; Supplier 1: Mouser; Supplier Part Number 1: 726-SAKXE160FU440RAA; Mounting Technology: Surface Mount; Code_JEDEC: J-STD-020C; ComponentLink1Description: Manufacturer URL; ComponentLink1URL: http://www.infineon.com/; ComponentLink2Description: Datasheet; ComponentLink2URL: http://www.infineon.com/dgdl/xe160fu_ds_v1.2_2012_07.pdf?folderId=db3a3043156fd5730115b3a665650d23&fileId=db3a30432e398416012e4d7bfc6a5d8a; ComponentLink3Description: Package Specification; ComponentLink3URL: http://www.infineon.com/dgdl/xc2210u_ds_v1.2_2012_07.pdf?folderId=db3a304412b407950112b409d4b00386&fileId=db3a30432fe423be01300234af6b6315&sId=db3a30433d956bc3013da090094b2cd9
footprint INF-PG-TSSOP-38-8_N (SOP, 38-Leads, Body 9.7x4.4mm, Pitch 0.5mm, IPC Medium Density)
footprint INF-PG-TSSOP-38-8_L (SOP, 38-Leads, Body 9.7x4.4mm, Pitch 0.5mm, IPC High Density)
footprint INF-PG-TSSOP-38-8_M (SOP, 38-Leads, Body 9.7x4.4mm, Pitch 0.5mm, IPC Low Density)
pins: 1 VAREF (power) "Reference Voltage for A/D Converters ADC0", 2 VAGND (power) "Reference Ground for A/D Converters ADC0", 3 P5.0 (in), 4 P5.2 (in), 5 P5.3 (in), 6 P5.4 (in), 7 P5.8 (in), 8 P2.0 (io), 9 VSS (power) "Digital Ground. All VSS pins must be connected to the ground-line or ground-plane.", 10 VDDPB (power) "Digital Pad Supply Voltage for Domain B. Connect decoupling capacitors to adjacent VDDP/VSS pin pairs as close as possible to the pins.", 11 P2.3 (io), 12 P2.4 (io), 13 P2.5 (io), 14 P2.6 (io), 15 P2.7 (io), 16 P2.8 (io), 17 P2.9 (io), 18 P2.10 (io), 19 P10.0 (io), 20 P10.1 (io), 21 P10.2 (io), 22 P10.3 (io), 23 P10.4 (io), 24 P10.5 (io), 25 P10.6 (io), 26 P10.7 (io), 27 P10.8 (io), 28 P10.9 (io), 29 VDDPB (power) "Digital Pad Supply Voltage for Domain B. Connect decoupling capacitors to adjacent VDDP/VSS pin pairs as close as possible to the pins.", 30 VSS (power) "Digital Ground. All VSS pins must be connected to the ground-line or ground-plane.", 31 VDDIM (power) "Digital Core Supply Voltage for Domain M. Decouple with a ceramic capacitor, see Data Sheet for details. All VDDIM pins must be connected to each other.", 32 P10.10 (io), 33 P10.12 (io), 34 ~{PORST} (in) "Power On Reset Input. A low level at this pin resets the XC2712X completely. A spike filter suppresses input pulses <10 ns. Input pulses >100 ns safely pass the filter. The minimum duration for a safe recognition should be (See Datasheet)", 35 ~{TESTM} (in) "Testmode Enable. Enables factory test modes, must be held HIGH for normal operation (connect to VDDPB). An internal pullup device will hold this pin high when nothing is driving it.", 36 ~{TRST} (in) "Test-System Reset Input. For normal system operation, pin T\R\S\T\ should be held low. A high level at this pin at the rising edge of P\O\R\S\T\ activates the XC2712X¡¯s debug system. In this case, pin T\R\S\T\ must b(See Datasheet)", 37 P6.1 (io), 38 P6.0 (io)

## SAK-XE160FU-8F40R AA
designator U?
40 MHz XE166 MCU with 64 KByte Program Memory, 8 KByte SRAM, 3 V, 5.5 V, -40 to 125 degC, PG-TSSOP-38, Reel, Green; Manufacturer: Infineon; PartNumber: SAK-XE160FU-8F40R AA; A / D input lines (incl. FADC): 8; CAN Nodes: 0; DatasheetVersion: Rev. 1.2; PackageVersion: V1.2, 07/2012; PackageReference: PG-TSSOP-38-8; PackageDescription: 38-Pin Plastic (Green) Thin Shrink Small Outline Package, Body 9.7 x 4.4 mm, Pitch 0.5 mm; Supplier 1: Mouser; Supplier Part Number 1: 726-SAKXE160FU840RAA; Mounting Technology: Surface Mount; Code_JEDEC: J-STD-020C; ComponentLink1Description: Manufacturer URL; ComponentLink1URL: http://www.infineon.com/; ComponentLink2Description: Datasheet; ComponentLink2URL: http://www.infineon.com/dgdl/xe160fu_ds_v1.2_2012_07.pdf?folderId=db3a3043156fd5730115b3a665650d23&fileId=db3a30432e398416012e4d7bfc6a5d8a; ComponentLink3Description: Package Specification; ComponentLink3URL: http://www.infineon.com/dgdl/xc2210u_ds_v1.2_2012_07.pdf?folderId=db3a304412b407950112b409d4b00386&fileId=db3a30432fe423be01300234af6b6315&sId=db3a30433d956bc3013da090094b2cd9
footprint INF-PG-TSSOP-38-8_N (SOP, 38-Leads, Body 9.7x4.4mm, Pitch 0.5mm, IPC Medium Density)
footprint INF-PG-TSSOP-38-8_L (SOP, 38-Leads, Body 9.7x4.4mm, Pitch 0.5mm, IPC High Density)
footprint INF-PG-TSSOP-38-8_M (SOP, 38-Leads, Body 9.7x4.4mm, Pitch 0.5mm, IPC Low Density)
pins: 1 VAREF (power) "Reference Voltage for A/D Converters ADC0", 2 VAGND (power) "Reference Ground for A/D Converters ADC0", 3 P5.0 (in), 4 P5.2 (in), 5 P5.3 (in), 6 P5.4 (in), 7 P5.8 (in), 8 P2.0 (io), 9 VSS (power) "Digital Ground. All VSS pins must be connected to the ground-line or ground-plane.", 10 VDDPB (power) "Digital Pad Supply Voltage for Domain B. Connect decoupling capacitors to adjacent VDDP/VSS pin pairs as close as possible to the pins.", 11 P2.3 (io), 12 P2.4 (io), 13 P2.5 (io), 14 P2.6 (io), 15 P2.7 (io), 16 P2.8 (io), 17 P2.9 (io), 18 P2.10 (io), 19 P10.0 (io), 20 P10.1 (io), 21 P10.2 (io), 22 P10.3 (io), 23 P10.4 (io), 24 P10.5 (io), 25 P10.6 (io), 26 P10.7 (io), 27 P10.8 (io), 28 P10.9 (io), 29 VDDPB (power) "Digital Pad Supply Voltage for Domain B. Connect decoupling capacitors to adjacent VDDP/VSS pin pairs as close as possible to the pins.", 30 VSS (power) "Digital Ground. All VSS pins must be connected to the ground-line or ground-plane.", 31 VDDIM (power) "Digital Core Supply Voltage for Domain M. Decouple with a ceramic capacitor, see Data Sheet for details. All VDDIM pins must be connected to each other.", 32 P10.10 (io), 33 P10.12 (io), 34 ~{PORST} (in) "Power On Reset Input. A low level at this pin resets the XC2712X completely. A spike filter suppresses input pulses <10 ns. Input pulses >100 ns safely pass the filter. The minimum duration for a safe recognition should be (See Datasheet)", 35 ~{TESTM} (in) "Testmode Enable. Enables factory test modes, must be held HIGH for normal operation (connect to VDDPB). An internal pullup device will hold this pin high when nothing is driving it.", 36 ~{TRST} (in) "Test-System Reset Input. For normal system operation, pin T\R\S\T\ should be held low. A high level at this pin at the rising edge of P\O\R\S\T\ activates the XC2712X¡¯s debug system. In this case, pin T\R\S\T\ must b(See Datasheet)", 37 P6.1 (io), 38 P6.0 (io)

## SAK-XE161FL-12F66V AA
designator U?
66 MHz XE166 MCU with 96 KByte Program Memory, 12 KByte SRAM, 3 V, 5.5 V, -40 to 125 degC, PG-VQFN-48, Reel, Green; Manufacturer: Infineon; PartNumber: SAK-XE161FL-12F66V AA; A / D input lines (incl. FADC): 10; CAN Nodes: 1; DatasheetVersion: Rev. 1.2; PackageVersion: Nov-10; PackageReference: PG-VQFN-48-54; PackageDescription: 48-Pin Plastic (Green) Very Thin Profile Quad Flat Non Leaded Package, Body 6.8 x 6.8 mm, Pitch 0.5 mm; Supplier 1: Mouser; Supplier Part Number 1: 726-SAKXE161FL166VAA; Mounting Technology: Surface Mount; ComponentLink1Description: Manufacturer URL; ComponentLink1URL: http://www.infineon.com/; ComponentLink2Description: Datasheet; ComponentLink2URL: http://www.infineon.com/dgdl/xe161xl_ds_v1.2_2012_07.pdf?folderId=db3a3043156fd5730115b3a665650d23&fileId=db3a30432e398416012e4d83b78a5da5; ComponentLink3Description: Package Specification; ComponentLink3URL: http://www.infineon.com/dgdl/PG-VQFN-48-15%2C-19%2C-20%2C-22%2C-24%2C-48%2C-51%2C-52%2C-53%2C-54%2C-55%2C-56%2C-57-Package_Overview.pdf?folderId=db3a304319c6f18c0119e80a8f2559bf&fileId=db3a304319c6f18c011a0b8b18c33200
footprint INF-PG-VQFN-48-54_N (QFN, 48-Leads, Body 6.8x6.8mm, Pitch 0.5mm, Thermal Pad 5.2x5.2mm, IPC Medium Density)
footprint INF-PG-VQFN-48-54_L (QFN, 48-Leads, Body 6.8x6.8mm, Pitch 0.5mm, Thermal Pad 5.2x5.2mm, IPC High Density)
footprint INF-PG-VQFN-48-54_M (QFN, 48-Leads, Body 6.8x6.8mm, Pitch 0.5mm, Thermal Pad 5.2x5.2mm, IPC Low Density)
pins: 1 ~{TESTM} (in) "Testmode Enable", 2 ~{TRST} (in) "Test-System Reset Input", 3 P6.3 (io), 4 P6.1 (io), 5 P6.0 (io), 6 VSS (power) "Digital Ground", 7 VDDPB (power) "Digital Pad Supply Voltage for Domain B", 8 VAREF (power) "Reference Voltage for A/D Converters ADC0", 9 VAGND (power) "Reference Ground for A/D Converters ADC0", 10 P5.0 (in), 11 P5.2 (in), 12 P5.3 (in), 13 P5.4 (in), 14 P5.8 (in), 15 P5.9 (in), 16 P2.0 (io), 17 P2.1 (io), 18 VDDIM (power) "Digital Core Supply Voltage for Domain M", 19 VSS (power) "Digital Ground", 20 VDDPB (power) "Digital Pad Supply Voltage for Domain B", 21 P2.2 (io), 22 P2.3 (io), 23 P2.4 (io), 24 P2.5 (io), 25 P2.6 (io), 26 P2.7 (io), 27 P2.8 (io), 28 P2.9 (io), 29 P2.10 (io), 30 P2.13 (io), 31 P10.0 (io), 32 P10.1 (io), 33 P10.2 (io), 34 P10.3 (io), 35 P10.4 (io), 36 P10.5 (io), 37 P10.6 (io), 38 P10.7 (io), 39 P10.8 (io), 40 P10.9 (io), 41 VDDPB (power) "Digital Pad Supply Voltage for Domain B", 42 VSS (power) "Digital Ground", 43 VDDIM (power) "Digital Core Supply Voltage for Domain M", 44 P10.10 (io), 45 P10.12 (io), 46 XTAL2 "Crystal Oscillator Amplifier Output", 47 XTAL1, 48 ~{PORST} (in) "Power On Reset Input", 49 EP (power) "Exposed Thermal Pad"

## SAK-XE161FL-20F66V AA
designator U?
66 MHz XE166 MCU with 160 KByte Program Memory, 12 KByte SRAM, 3 V, 5.5 V, -40 to 125 degC, PG-VQFN-48, Reel, Green; Manufacturer: Infineon; PartNumber: SAK-XE161FL-20F66V AA; A / D input lines (incl. FADC): 10; CAN Nodes: 1; DatasheetVersion: Rev. 1.2; PackageVersion: Nov-10; PackageReference: PG-VQFN-48-54; PackageDescription: 48-Pin Plastic (Green) Very Thin Profile Quad Flat Non Leaded Package, Body 6.8 x 6.8 mm, Pitch 0.5 mm; Supplier 1: Mouser; Supplier Part Number 1: 726-SAKXE161FL266VAA; Mounting Technology: Surface Mount; ComponentLink1Description: Manufacturer URL; ComponentLink1URL: http://www.infineon.com/; ComponentLink2Description: Datasheet; ComponentLink2URL: http://www.infineon.com/dgdl/xe161xl_ds_v1.2_2012_07.pdf?folderId=db3a3043156fd5730115b3a665650d23&fileId=db3a30432e398416012e4d83b78a5da5; ComponentLink3Description: Package Specification; ComponentLink3URL: http://www.infineon.com/dgdl/PG-VQFN-48-15%2C-19%2C-20%2C-22%2C-24%2C-48%2C-51%2C-52%2C-53%2C-54%2C-55%2C-56%2C-57-Package_Overview.pdf?folderId=db3a304319c6f18c0119e80a8f2559bf&fileId=db3a304319c6f18c011a0b8b18c33200
footprint INF-PG-VQFN-48-54_N (QFN, 48-Leads, Body 6.8x6.8mm, Pitch 0.5mm, Thermal Pad 5.2x5.2mm, IPC Medium Density)
footprint INF-PG-VQFN-48-54_L (QFN, 48-Leads, Body 6.8x6.8mm, Pitch 0.5mm, Thermal Pad 5.2x5.2mm, IPC High Density)
footprint INF-PG-VQFN-48-54_M (QFN, 48-Leads, Body 6.8x6.8mm, Pitch 0.5mm, Thermal Pad 5.2x5.2mm, IPC Low Density)
pins: 1 ~{TESTM} (in) "Testmode Enable", 2 ~{TRST} (in) "Test-System Reset Input", 3 P6.3 (io), 4 P6.1 (io), 5 P6.0 (io), 6 VSS (power) "Digital Ground", 7 VDDPB (power) "Digital Pad Supply Voltage for Domain B", 8 VAREF (power) "Reference Voltage for A/D Converters ADC0", 9 VAGND (power) "Reference Ground for A/D Converters ADC0", 10 P5.0 (in), 11 P5.2 (in), 12 P5.3 (in), 13 P5.4 (in), 14 P5.8 (in), 15 P5.9 (in), 16 P2.0 (io), 17 P2.1 (io), 18 VDDIM (power) "Digital Core Supply Voltage for Domain M", 19 VSS (power) "Digital Ground", 20 VDDPB (power) "Digital Pad Supply Voltage for Domain B", 21 P2.2 (io), 22 P2.3 (io), 23 P2.4 (io), 24 P2.5 (io), 25 P2.6 (io), 26 P2.7 (io), 27 P2.8 (io), 28 P2.9 (io), 29 P2.10 (io), 30 P2.13 (io), 31 P10.0 (io), 32 P10.1 (io), 33 P10.2 (io), 34 P10.3 (io), 35 P10.4 (io), 36 P10.5 (io), 37 P10.6 (io), 38 P10.7 (io), 39 P10.8 (io), 40 P10.9 (io), 41 VDDPB (power) "Digital Pad Supply Voltage for Domain B", 42 VSS (power) "Digital Ground", 43 VDDIM (power) "Digital Core Supply Voltage for Domain M", 44 P10.10 (io), 45 P10.12 (io), 46 XTAL2 "Crystal Oscillator Amplifier Output", 47 XTAL1, 48 ~{PORST} (in) "Power On Reset Input", 49 EP (power) "Exposed Thermal Pad"

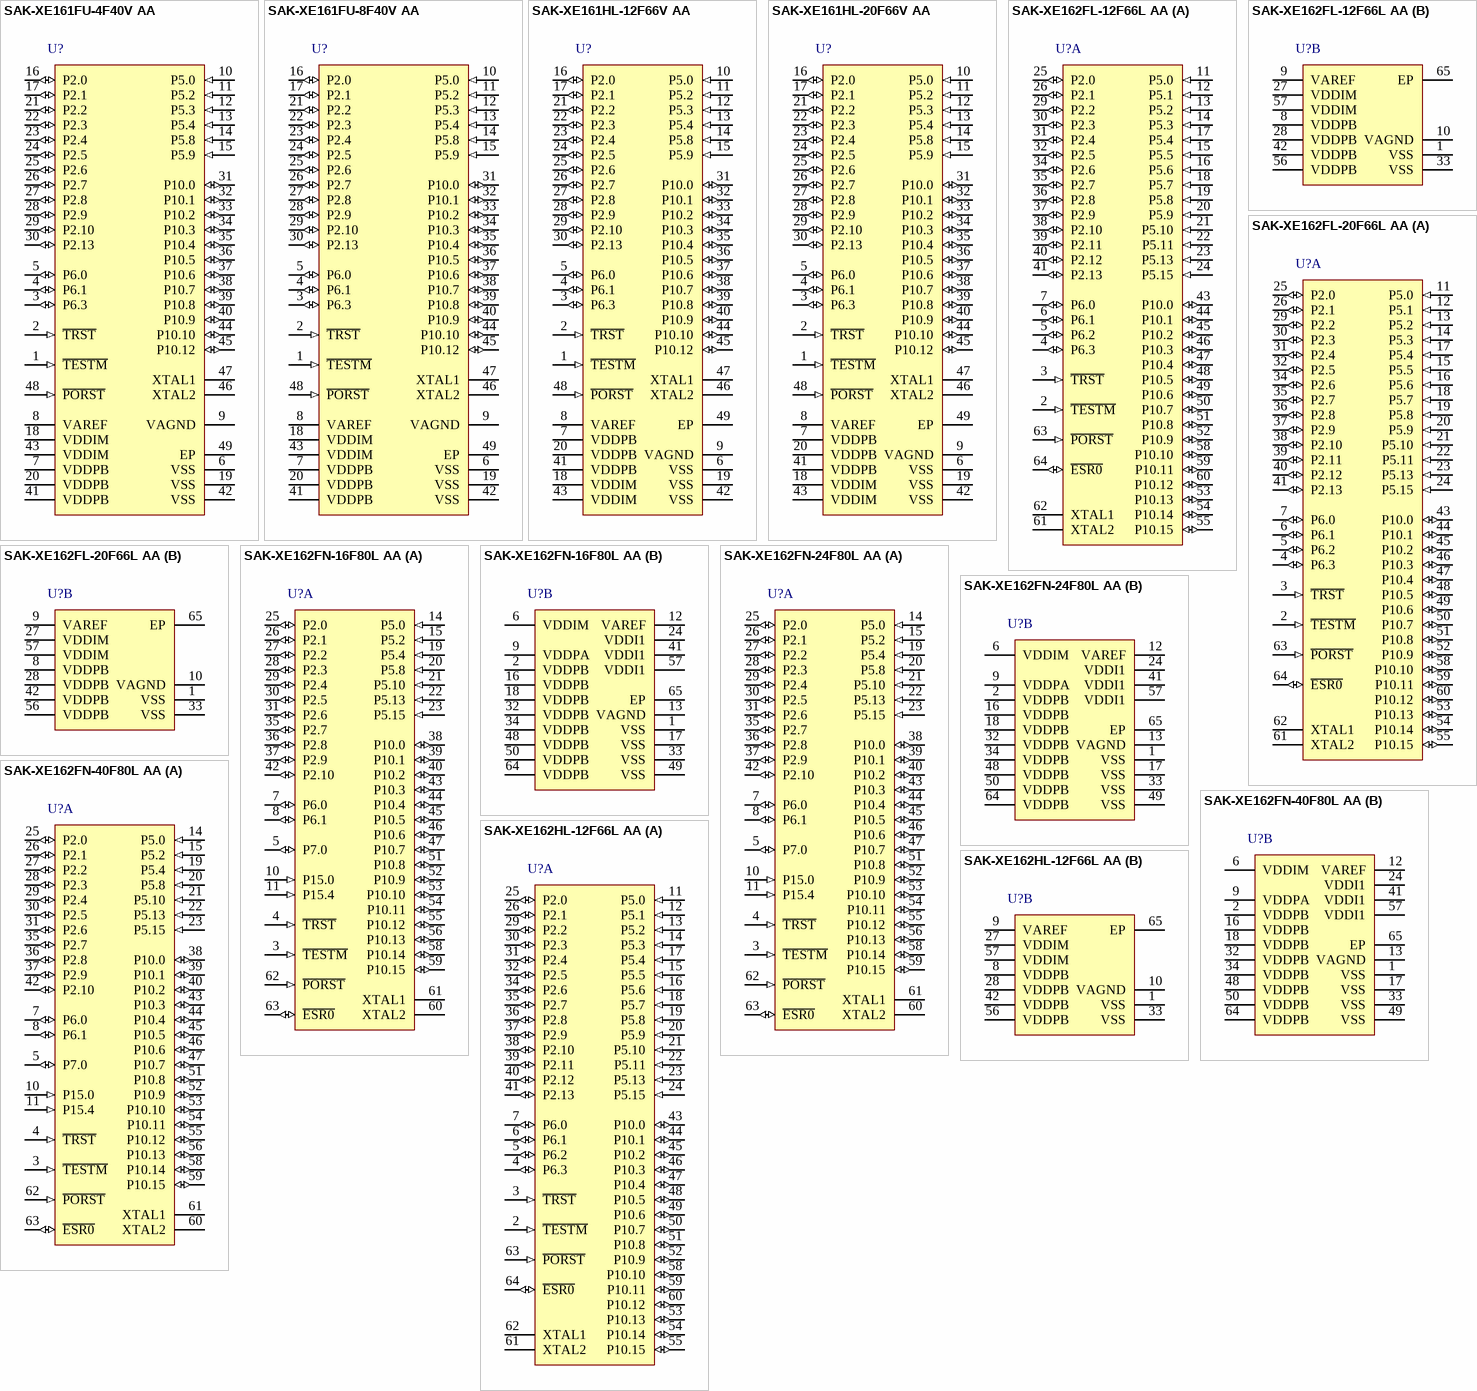
[diagram p95: symbols SAK-XE161FU-4F40V AA to SAK-XE162HL-12F66L AA]

## SAK-XE161FU-4F40V AA
designator U?
40 MHz XE166 MCU with 32 KByte Program Memory, 8 KByte SRAM, 3 V, 5.5 V, -40 to 125 degC, PG-VQFN-48, Reel, Green; Manufacturer: Infineon; PartNumber: SAK-XE161FU-4F40V AA; A / D input lines (incl. FADC): 8; CAN Nodes: 0; DatasheetVersion: Rev. 1.2; PackageVersion: Nov-10; PackageReference: PG-VQFN-48-54; PackageDescription: 48-Pin Plastic (Green) Very Thin Profile Quad Flat Non Leaded Package, Body 6.8 x 6.8 mm, Pitch 0.5 mm; Supplier 1: Mouser; Supplier Part Number 1: 726-SAKXE161FU440VAA; Mounting Technology: Surface Mount; ComponentLink1Description: Manufacturer URL; ComponentLink1URL: http://www.infineon.com/; ComponentLink2Description: Datasheet; ComponentLink2URL: http://www.infineon.com/dgdl/xe161fu_ds_v1.2_2012_07.pdf?folderId=db3a3043156fd5730115b3a665650d23&fileId=db3a30432e398416012e4d7b0ca95d84; ComponentLink3Description: Package Specification; ComponentLink3URL: http://www.infineon.com/dgdl/PG-VQFN-48-15%2C-19%2C-20%2C-22%2C-24%2C-48%2C-51%2C-52%2C-53%2C-54%2C-55%2C-56%2C-57-Package_Overview.pdf?folderId=db3a304319c6f18c0119e80a8f2559bf&fileId=db3a304319c6f18c011a0b8b18c33200
footprint INF-PG-VQFN-48-54_N (QFN, 48-Leads, Body 6.8x6.8mm, Pitch 0.5mm, Thermal Pad 5.2x5.2mm, IPC Medium Density)
footprint INF-PG-VQFN-48-54_L (QFN, 48-Leads, Body 6.8x6.8mm, Pitch 0.5mm, Thermal Pad 5.2x5.2mm, IPC High Density)
footprint INF-PG-VQFN-48-54_M (QFN, 48-Leads, Body 6.8x6.8mm, Pitch 0.5mm, Thermal Pad 5.2x5.2mm, IPC Low Density)
pins: 1 ~{TESTM} (in) "Testmode Enable", 2 ~{TRST} (in) "Test-System Reset Input", 3 P6.3 (io), 4 P6.1 (io), 5 P6.0 (io), 6 VSS (power) "Digital Ground", 7 VDDPB (power) "Digital Pad Supply Voltage for Domain B", 8 VAREF (power) "Reference Voltage for A/D Converters ADC0", 9 VAGND (power) "Reference Ground for A/D Converters ADC0", 10 P5.0 (in), 11 P5.2 (in), 12 P5.3 (in), 13 P5.4 (in), 14 P5.8 (in), 15 P5.9 (in), 16 P2.0 (io), 17 P2.1 (io), 18 VDDIM (power) "Digital Core Supply Voltage for Domain M", 19 VSS (power) "Digital Ground", 20 VDDPB (power) "Digital Pad Supply Voltage for Domain B", 21 P2.2 (io), 22 P2.3 (io), 23 P2.4 (io), 24 P2.5 (io), 25 P2.6 (io), 26 P2.7 (io), 27 P2.8 (io), 28 P2.9 (io), 29 P2.10 (io), 30 P2.13 (io) "Bit 13 of Port 2, General Purpose Input/Output", 31 P10.0 (io), 32 P10.1 (io), 33 P10.2 (io), 34 P10.3 (io), 35 P10.4 (io), 36 P10.5 (io), 37 P10.6 (io), 38 P10.7 (io), 39 P10.8 (io), 40 P10.9 (io), 41 VDDPB (power) "Digital Pad Supply Voltage for Domain B", 42 VSS (power) "Digital Ground", 43 VDDIM (power) "Digital Core Supply Voltage for Domain M", 44 P10.10 (io), 45 P10.12 (io), 46 XTAL2 "Crystal Oscillator Amplifier Output", 47 XTAL1, 48 ~{PORST} (in) "Power On Reset Input", 49 EP (power)

## SAK-XE161FU-8F40V AA
designator U?
40 MHz XE166 MCU with 64 KByte Program Memory, 8 KByte SRAM, 3 V, 5.5 V, -40 to 125 degC, PG-VQFN-48, Reel, Green; Manufacturer: Infineon; PartNumber: SAK-XE161FU-8F40V AA; A / D input lines (incl. FADC): 8; CAN Nodes: 0; DatasheetVersion: Rev. 1.2; PackageVersion: Nov-10; PackageReference: PG-VQFN-48-54; PackageDescription: 48-Pin Plastic (Green) Very Thin Profile Quad Flat Non Leaded Package, Body 6.8 x 6.8 mm, Pitch 0.5 mm; Supplier 1: Mouser; Supplier Part Number 1: 726-SAKXE161FU840VAA; Mounting Technology: Surface Mount; ComponentLink1Description: Manufacturer URL; ComponentLink1URL: http://www.infineon.com/; ComponentLink2Description: Datasheet; ComponentLink2URL: http://www.infineon.com/dgdl/xe161fu_ds_v1.2_2012_07.pdf?folderId=db3a3043156fd5730115b3a665650d23&fileId=db3a30432e398416012e4d7b0ca95d84; ComponentLink3Description: Package Specification; ComponentLink3URL: http://www.infineon.com/dgdl/PG-VQFN-48-15%2C-19%2C-20%2C-22%2C-24%2C-48%2C-51%2C-52%2C-53%2C-54%2C-55%2C-56%2C-57-Package_Overview.pdf?folderId=db3a304319c6f18c0119e80a8f2559bf&fileId=db3a304319c6f18c011a0b8b18c33200
footprint INF-PG-VQFN-48-54_N (QFN, 48-Leads, Body 6.8x6.8mm, Pitch 0.5mm, Thermal Pad 5.2x5.2mm, IPC Medium Density)
footprint INF-PG-VQFN-48-54_L (QFN, 48-Leads, Body 6.8x6.8mm, Pitch 0.5mm, Thermal Pad 5.2x5.2mm, IPC High Density)
footprint INF-PG-VQFN-48-54_M (QFN, 48-Leads, Body 6.8x6.8mm, Pitch 0.5mm, Thermal Pad 5.2x5.2mm, IPC Low Density)
pins: 1 ~{TESTM} (in) "Testmode Enable", 2 ~{TRST} (in) "Test-System Reset Input", 3 P6.3 (io), 4 P6.1 (io), 5 P6.0 (io), 6 VSS (power) "Digital Ground", 7 VDDPB (power) "Digital Pad Supply Voltage for Domain B", 8 VAREF (power) "Reference Voltage for A/D Converters ADC0", 9 VAGND (power) "Reference Ground for A/D Converters ADC0", 10 P5.0 (in), 11 P5.2 (in), 12 P5.3 (in), 13 P5.4 (in), 14 P5.8 (in), 15 P5.9 (in), 16 P2.0 (io), 17 P2.1 (io), 18 VDDIM (power) "Digital Core Supply Voltage for Domain M", 19 VSS (power) "Digital Ground", 20 VDDPB (power) "Digital Pad Supply Voltage for Domain B", 21 P2.2 (io), 22 P2.3 (io), 23 P2.4 (io), 24 P2.5 (io), 25 P2.6 (io), 26 P2.7 (io), 27 P2.8 (io), 28 P2.9 (io), 29 P2.10 (io), 30 P2.13 (io) "Bit 13 of Port 2, General Purpose Input/Output", 31 P10.0 (io), 32 P10.1 (io), 33 P10.2 (io), 34 P10.3 (io), 35 P10.4 (io), 36 P10.5 (io), 37 P10.6 (io), 38 P10.7 (io), 39 P10.8 (io), 40 P10.9 (io), 41 VDDPB (power) "Digital Pad Supply Voltage for Domain B", 42 VSS (power) "Digital Ground", 43 VDDIM (power) "Digital Core Supply Voltage for Domain M", 44 P10.10 (io), 45 P10.12 (io), 46 XTAL2 "Crystal Oscillator Amplifier Output", 47 XTAL1, 48 ~{PORST} (in) "Power On Reset Input", 49 EP (power)

## SAK-XE161HL-12F66V AA
designator U?
66 MHz XE166 MCU with 96 KByte Program Memory, 12 KByte SRAM, 3 V, 5.5 V, -40 to 125 degC, PG-VQFN-48, Reel, Green; Manufacturer: Infineon; PartNumber: SAK-XE161HL-12F66V AA; A / D input lines (incl. FADC): 10; CAN Nodes: 0; DatasheetVersion: Rev. 1.2; PackageVersion: Nov-10; PackageReference: PG-VQFN-48-54; PackageDescription: 48-Pin Plastic (Green) Very Thin Profile Quad Flat Non Leaded Package, Body 6.8 x 6.8 mm, Pitch 0.5 mm; Supplier 1: Mouser; Supplier Part Number 1: 726-SAKXE161HL166VAA; Mounting Technology: Surface Mount; ComponentLink1Description: Manufacturer URL; ComponentLink1URL: http://www.infineon.com/; ComponentLink2Description: Datasheet; ComponentLink2URL: http://www.infineon.com/dgdl/xe161xl_ds_v1.2_2012_07.pdf?folderId=db3a3043156fd5730115b3a665650d23&fileId=db3a30432e398416012e4d83b78a5da5; ComponentLink3Description: Package Specification; ComponentLink3URL: http://www.infineon.com/dgdl/PG-VQFN-48-15%2C-19%2C-20%2C-22%2C-24%2C-48%2C-51%2C-52%2C-53%2C-54%2C-55%2C-56%2C-57-Package_Overview.pdf?folderId=db3a304319c6f18c0119e80a8f2559bf&fileId=db3a304319c6f18c011a0b8b18c33200
footprint INF-PG-VQFN-48-54_N (QFN, 48-Leads, Body 6.8x6.8mm, Pitch 0.5mm, Thermal Pad 5.2x5.2mm, IPC Medium Density)
footprint INF-PG-VQFN-48-54_L (QFN, 48-Leads, Body 6.8x6.8mm, Pitch 0.5mm, Thermal Pad 5.2x5.2mm, IPC High Density)
footprint INF-PG-VQFN-48-54_M (QFN, 48-Leads, Body 6.8x6.8mm, Pitch 0.5mm, Thermal Pad 5.2x5.2mm, IPC Low Density)
pins: 1 ~{TESTM} (in) "Testmode Enable", 2 ~{TRST} (in) "Test-System Reset Input", 3 P6.3 (io), 4 P6.1 (io), 5 P6.0 (io), 6 VSS (power) "Digital Ground", 7 VDDPB (power) "Digital Pad Supply Voltage for Domain B", 8 VAREF (power) "Reference Voltage for A/D Converters ADC0", 9 VAGND (power) "Reference Ground for A/D Converters ADC0", 10 P5.0 (in), 11 P5.2 (in), 12 P5.3 (in), 13 P5.4 (in), 14 P5.8 (in), 15 P5.9 (in), 16 P2.0 (io), 17 P2.1 (io), 18 VDDIM (power) "Digital Core Supply Voltage for Domain M", 19 VSS (power) "Digital Ground", 20 VDDPB (power) "Digital Pad Supply Voltage for Domain B", 21 P2.2 (io), 22 P2.3 (io), 23 P2.4 (io), 24 P2.5 (io), 25 P2.6 (io), 26 P2.7 (io), 27 P2.8 (io), 28 P2.9 (io), 29 P2.10 (io), 30 P2.13 (io), 31 P10.0 (io), 32 P10.1 (io), 33 P10.2 (io), 34 P10.3 (io), 35 P10.4 (io), 36 P10.5 (io), 37 P10.6 (io), 38 P10.7 (io), 39 P10.8 (io), 40 P10.9 (io), 41 VDDPB (power) "Digital Pad Supply Voltage for Domain B", 42 VSS (power) "Digital Ground", 43 VDDIM (power) "Digital Core Supply Voltage for Domain M", 44 P10.10 (io), 45 P10.12 (io), 46 XTAL2 "Crystal Oscillator Amplifier Output", 47 XTAL1, 48 ~{PORST} (in) "Power On Reset Input", 49 EP (power) "Exposed Thermal Pad"

## SAK-XE161HL-20F66V AA
designator U?
66 MHz XE166 MCU with 160 KByte Program Memory, 12 KByte SRAM, 3 V, 5.5 V, -40 to 125 degC, PG-VQFN-48, Reel, Green; Manufacturer: Infineon; PartNumber: SAK-XE161HL-20F66V AA; A / D input lines (incl. FADC): 10; CAN Nodes: 0; DatasheetVersion: Rev. 1.2; PackageVersion: Nov-10; PackageReference: PG-VQFN-48-54; PackageDescription: 48-Pin Plastic (Green) Very Thin Profile Quad Flat Non Leaded Package, Body 6.8 x 6.8 mm, Pitch 0.5 mm; Supplier 1: Mouser; Supplier Part Number 1: 726-SAKXE161HL266VAA; Mounting Technology: Surface Mount; ComponentLink1Description: Manufacturer URL; ComponentLink1URL: http://www.infineon.com/; ComponentLink2Description: Datasheet; ComponentLink2URL: http://www.infineon.com/dgdl/xe161xl_ds_v1.2_2012_07.pdf?folderId=db3a3043156fd5730115b3a665650d23&fileId=db3a30432e398416012e4d83b78a5da5; ComponentLink3Description: Package Specification; ComponentLink3URL: http://www.infineon.com/dgdl/PG-VQFN-48-15%2C-19%2C-20%2C-22%2C-24%2C-48%2C-51%2C-52%2C-53%2C-54%2C-55%2C-56%2C-57-Package_Overview.pdf?folderId=db3a304319c6f18c0119e80a8f2559bf&fileId=db3a304319c6f18c011a0b8b18c33200
footprint INF-PG-VQFN-48-54_N (QFN, 48-Leads, Body 6.8x6.8mm, Pitch 0.5mm, Thermal Pad 5.2x5.2mm, IPC Medium Density)
footprint INF-PG-VQFN-48-54_L (QFN, 48-Leads, Body 6.8x6.8mm, Pitch 0.5mm, Thermal Pad 5.2x5.2mm, IPC High Density)
footprint INF-PG-VQFN-48-54_M (QFN, 48-Leads, Body 6.8x6.8mm, Pitch 0.5mm, Thermal Pad 5.2x5.2mm, IPC Low Density)
pins: 1 ~{TESTM} (in) "Testmode Enable", 2 ~{TRST} (in) "Test-System Reset Input", 3 P6.3 (io), 4 P6.1 (io), 5 P6.0 (io), 6 VSS (power) "Digital Ground", 7 VDDPB (power) "Digital Pad Supply Voltage for Domain B", 8 VAREF (power) "Reference Voltage for A/D Converters ADC0", 9 VAGND (power) "Reference Ground for A/D Converters ADC0", 10 P5.0 (in), 11 P5.2 (in), 12 P5.3 (in), 13 P5.4 (in), 14 P5.8 (in), 15 P5.9 (in), 16 P2.0 (io), 17 P2.1 (io), 18 VDDIM (power) "Digital Core Supply Voltage for Domain M", 19 VSS (power) "Digital Ground", 20 VDDPB (power) "Digital Pad Supply Voltage for Domain B", 21 P2.2 (io), 22 P2.3 (io), 23 P2.4 (io), 24 P2.5 (io), 25 P2.6 (io), 26 P2.7 (io), 27 P2.8 (io), 28 P2.9 (io), 29 P2.10 (io), 30 P2.13 (io), 31 P10.0 (io), 32 P10.1 (io), 33 P10.2 (io), 34 P10.3 (io), 35 P10.4 (io), 36 P10.5 (io), 37 P10.6 (io), 38 P10.7 (io), 39 P10.8 (io), 40 P10.9 (io), 41 VDDPB (power) "Digital Pad Supply Voltage for Domain B", 42 VSS (power) "Digital Ground", 43 VDDIM (power) "Digital Core Supply Voltage for Domain M", 44 P10.10 (io), 45 P10.12 (io), 46 XTAL2 "Crystal Oscillator Amplifier Output", 47 XTAL1, 48 ~{PORST} (in) "Power On Reset Input", 49 EP (power) "Exposed Thermal Pad"

## SAK-XE162FL-12F66L AA
designator U?
66 MHz XE166 MCU with 96 KByte Program Memory, 12 KByte SRAM, 3 V, 5.5 V, -40 to 125 degC, PG-LQFP-64, Reel, Green; Manufacturer: Infineon; PartNumber: SAK-XE162FL-12F66L AA; A / D input lines (incl. FADC): 19; CAN Nodes: 2; DatasheetVersion: Rev. 1.2; PackageVersion: Feb-13; PackageReference: PG-LQFP-64-22; PackageDescription: 64-Pin Plastic (Green) Low Profile Quad Flat Package, Body 10 x 10 mm, Pitch 0.5 mm; Supplier 1: Mouser; Supplier Part Number 1: 726-SAKXE162FL166LAA; Mounting Technology: Surface Mount; ComponentLink1Description: Manufacturer URL; ComponentLink1URL: http://www.infineon.com/; ComponentLink2Description: Datasheet; ComponentLink2URL: http://www.infineon.com/dgdl/xe162xl_ds_v1.2_2012_07.pdf?folderId=db3a3043156fd5730115b3a665650d23&fileId=db3a30432e398416012e4d819be85d9f; ComponentLink3Description: Package Specification; ComponentLink3URL: http://www.infineon.com/dgdl/PG-LQFP-64-6%2C-8%2C-12%2C-19%2C-22-Package_Overview.pdf?folderId=db3a304318f3fe29011919857f7b2e0a&fileId=db3a30431a5c32f2011a8cbd8b4b5d28
footprint INF-PG-LQFP-64-22_N (QFP, 64-Leads, Body 10x10mm, Pitch 0.5mm, Thermal Pad 5.4x5.4mm, IPC Medium Density)
footprint INF-PG-LQFP-64-22_L (QFP, 64-Leads, Body 10x10mm, Pitch 0.5mm, Thermal Pad 5.4x5.4mm, IPC High Density)
footprint INF-PG-LQFP-64-22_M (QFP, 64-Leads, Body 10x10mm, Pitch 0.5mm, Thermal Pad 5.4x5.4mm, IPC Low Density)
part A pins: 2 ~{TESTM} (in) "Testmode Enable", 3 ~{TRST} (in) "Test-System Reset Input", 4 P6.3 (io), 5 P6.2 (io), 6 P6.1 (io), 7 P6.0 (io), 11 P5.0 (in), 12 P5.1 (in), 13 P5.2 (in), 14 P5.3 (in), 15 P5.5 (in), 16 P5.6 (in), 17 P5.4 (in), 18 P5.7 (in), 19 P5.8 (in), 20 P5.9 (in), 21 P5.10 (in), 22 P5.11 (in), 23 P5.13 (in), 24 P5.15 (in), 25 P2.0 (io), 26 P2.1 (io), 29 P2.2 (io), 30 P2.3 (io), 31 P2.4 (io), 32 P2.5 (io), 34 P2.6 (io), 35 P2.7 (io), 36 P2.8 (io), 37 P2.9 (io), 38 P2.10 (io), 39 P2.11 (io), 40 P2.12 (io), 41 P2.13 (io), 43 P10.0 (io), 44 P10.1 (io), 45 P10.2 (io), 46 P10.3 (io), 47 P10.4 (io), 48 P10.5 (io), 49 P10.6 (io), 50 P10.7 (io), 51 P10.8 (io), 52 P10.9 (io), 53 P10.13 (io), 54 P10.14 (io), 55 P10.15 (io), 58 P10.10 (io), 59 P10.11 (io), 60 P10.12 (io), 61 XTAL2 "Crystal Oscillator Amplifier Output", 62 XTAL1, 63 ~{PORST} (in) "Power On Reset Input", 64 ~{ESR0} (io)
part B pins: 1 VSS (power) "Digital Ground", 8 VDDPB (power) "Digital Pad Supply Voltage for Domain B", 9 VAREF (power) "Reference Voltage for A/D Converters ADC0", 10 VAGND (power) "Reference Ground for A/D Converters ADC0", 27 VDDIM (power) "Digital Core Supply Voltage for Domain M", 28 VDDPB (power) "Digital Pad Supply Voltage for Domain B", 33 VSS (power) "Digital Ground", 42 VDDPB (power) "Digital Pad Supply Voltage for Domain B", 56 VDDPB (power) "Digital Pad Supply Voltage for Domain B", 57 VDDIM (power) "Digital Core Supply Voltage for Domain M", 65 EP (power)